# EAGLE library part 68612014122 (library Eagle_FPC_CONNECTOR_AND_FFC_CAB (rev18c))
WR-FPC 1.00mm SMT ZIF Horizontal Top Contact, 20 Pins=>Code : Con_FPC_ZIF_1.00_68612014122 <http://katalog.we-online.de/media/images/eican/Con_FPC_ZIF_1.00_6861xx14122_pf2.jpg> Details see: http://katalog.we-online.de/en/em/686_1xx_141_22 Created 2014-07-09, Karrer Zheng 2014 (C) Würth Elektronik
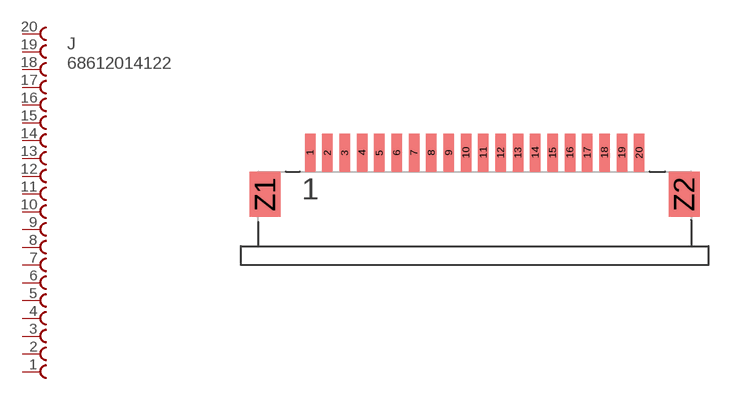
[diagram p47: symbol with the pads of 68612014122; footprint 68612014122]

Designator prefix J

## 68612014122  [68612014122]
1  20  pas
2  19  pas
3  18  pas
4  17  pas
5  16  pas
6  15  pas
7  14  pas
8  13  pas
9  12  pas
10  11  pas
11  10  pas
12  9  pas
13  8  pas
14  7  pas
15  6  pas
16  5  pas
17  4  pas
18  3  pas
19  2  pas
20  1  pas

## Footprint 68612014122 (pad centres in mm)
WR-FPC 1.00mm SMT ZIF Horizontal Top Contact, 20 Pins
smd 0.6 x 2.2: 1 -9.5,2.4; 2 -8.5,2.4; 3 -7.5,2.4; 4 -6.5,2.4; 5 -5.5,2.4; 6 -4.5,2.4; 7 -3.5,2.4; 8 -2.5,2.4; 9 -1.5,2.4; 10 -0.5,2.4; 11 0.5,2.4; 12 1.5,2.4; 13 2.5,2.4; 14 3.5,2.4; 15 4.5,2.4; 16 5.5,2.4; 17 6.5,2.4; 18 7.5,2.4; 19 8.5,2.4; 20 9.5,2.4
smd 1.8 x 2.6: Z1 -12.1,0; Z2 12.1,0